# EAGLE library part DECADE-DS1307-SOIC (library DECADE-libraries)
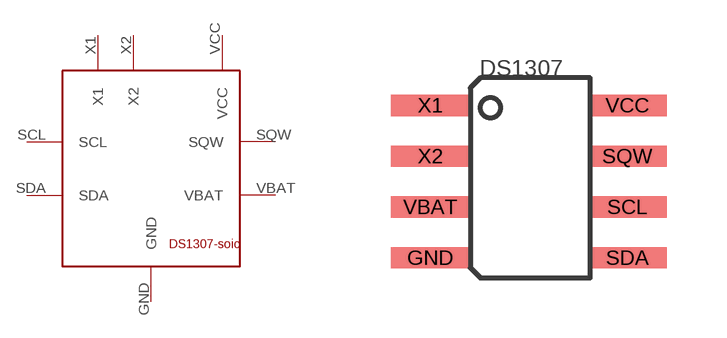
[diagram p2: symbol with the pads of DECADE-DS1307-SOIC; footprint DECADE-DS1307-SOIC]

Designator prefix -

## DECADE-DS1307-SOIC  [DECADE-DS1307-SOIC]
GND  GND
SCL  SCL
SDA  SDA
SQW  SQW
VBAT  VBAT
VCC  VCC
X1  X1
X2  X2

## Footprint DECADE-DS1307-SOIC (pad centres in mm)
smd 1.98 x 0.53: GND -2.5,-2; SCL 2.43,-0.73; SDA 2.43,-2; SQW 2.43,0.54; VBAT -2.5,-0.73; VCC 2.43,1.81; X1 -2.5,1.81; X2 -2.5,0.54